# Altium footprint library MINI-STM32.PcbLib: 17 footprints (part 2 of 2)
Each footprint in its own frame and in the unit in brackets; x right, y up, seen from the top. Pads: shape width x height; smd on the part's side, far side on the other; paste and mask are expansions set on the pad; w line width, h text height; cw(c..) or ccw(c..) is an arc to the next point about the centre after c.
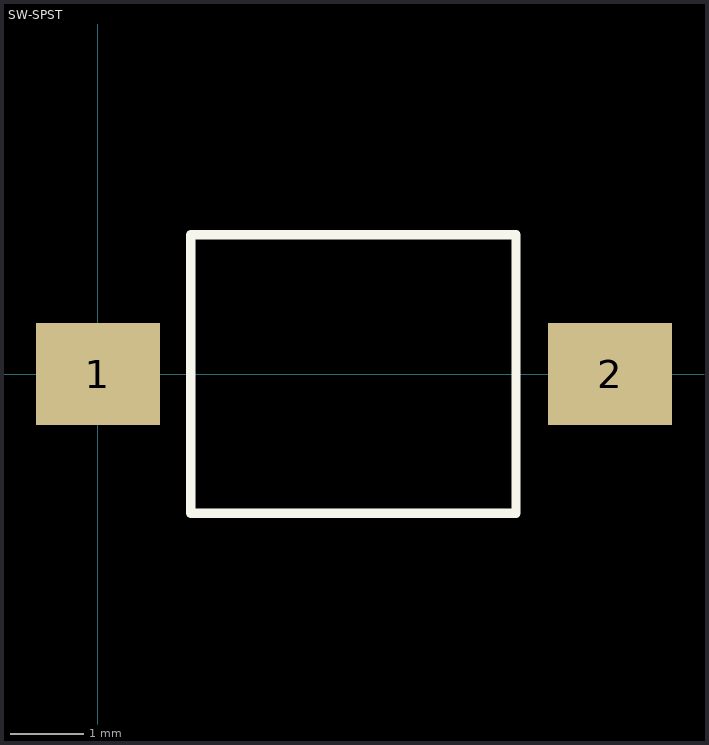
[diagram p1: the footprint, top view; thin cyan lines are the x and y axes]

## SW-SPST [mm]
height 5.6
pads (2):
  rect 1.7x1.4 smd: 1(0,0) 2(7,0)
Top Overlay:
  lines w0.127: 1.27,-1.905 5.715,-1.905 5.715,1.905 1.27,1.905 1.27,-1.905